# EAGLE library part HEAD_1X10 (library mechanical)
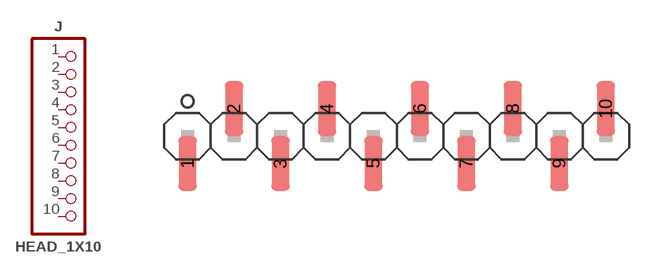
[diagram p1: symbol with the pads of HEAD_MALE_1X10_SMD; footprint HEAD_MALE_1X10_SMD]

Designator prefix J

## HEAD_1X10_SMD  [HEAD_MALE_1X10_SMD]
1  1  pas
2  2  pas
3  3  pas
4  4  pas
5  5  pas
6  6  pas
7  7  pas
8  8  pas
9  9  pas
10  10  pas

## Footprint HEAD_MALE_1X10_SMD (pad centres in mm)
smd 1 x 3: 1 -11.43,-1.5; 2 -8.89,1.5; 3 -6.35,-1.5; 4 -3.81,1.5; 5 -1.27,-1.5; 6 1.27,1.5; 7 3.81,-1.5; 8 6.35,1.5; 9 8.89,-1.5; 10 11.43,1.5